# EAGLE library part ML10 (library TABOR K1)
10 pinovy konektor samec typu ML
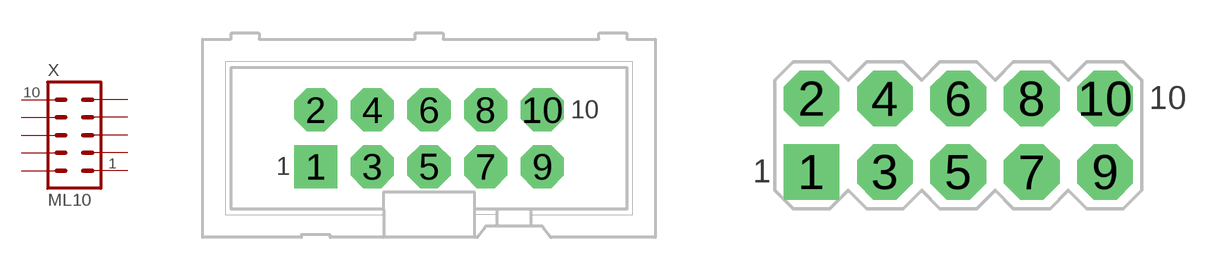
[diagram p36: symbol with the pads of MLW10; footprints MLW10, MLA10]

Designator prefix X

## ML10W  [MLW10]
1  1  pas
2  2  pas
3  3  pas
4  4  pas
5  5  pas
6  6  pas
7  7  pas
8  8  pas
9  9  pas
10  10  pas

## ML10A  [MLA10]
Pads as for MLW10

## Footprint MLW10 (pad centres in mm)
10-pinovy konektor HARTING : kolik= 0,6x0,6mm, diera s pokovenim = 0,9mm, vrtanie = 1,1mm
drill 1.092 pad 1.93 square: 1 -5.08,-1.27
drill 1.092 pad 1.93 octagon: 2 -5.08,1.27; 3 -2.54,-1.27; 4 -2.54,1.27; 5 0,-1.27; 6 0,1.27; 7 2.54,-1.27; 8 2.54,1.27; 9 5.08,-1.27; 10 5.08,1.27

## Footprint MLA10 (pad centres in mm)
10-pinovy konektor - samec : kolik= 0,6x0,6mm, diera s pokovenim = 0,9mm, vrtanie = 1,1mm
drill 1.092 pad 1.93 square: 1 -5.08,-1.27
drill 1.092 pad 1.93 octagon: 2 -5.08,1.27; 3 -2.54,-1.27; 4 -2.54,1.27; 5 0,-1.27; 6 0,1.27; 7 2.54,-1.27; 8 2.54,1.27; 9 5.08,-1.27; 10 5.08,1.27